# Altium footprint library Altium Example Master PCB Library.PcbLib: 219 footprints (part 13 of 14)
Each footprint in its own frame and in the unit in brackets; x right, y up, seen from the top. Pads: shape width x height; smd on the part's side, far side on the other; paste and mask are expansions set on the pad; w line width, h text height; cw(c..) or ccw(c..) is an arc to the next point about the centre after c.
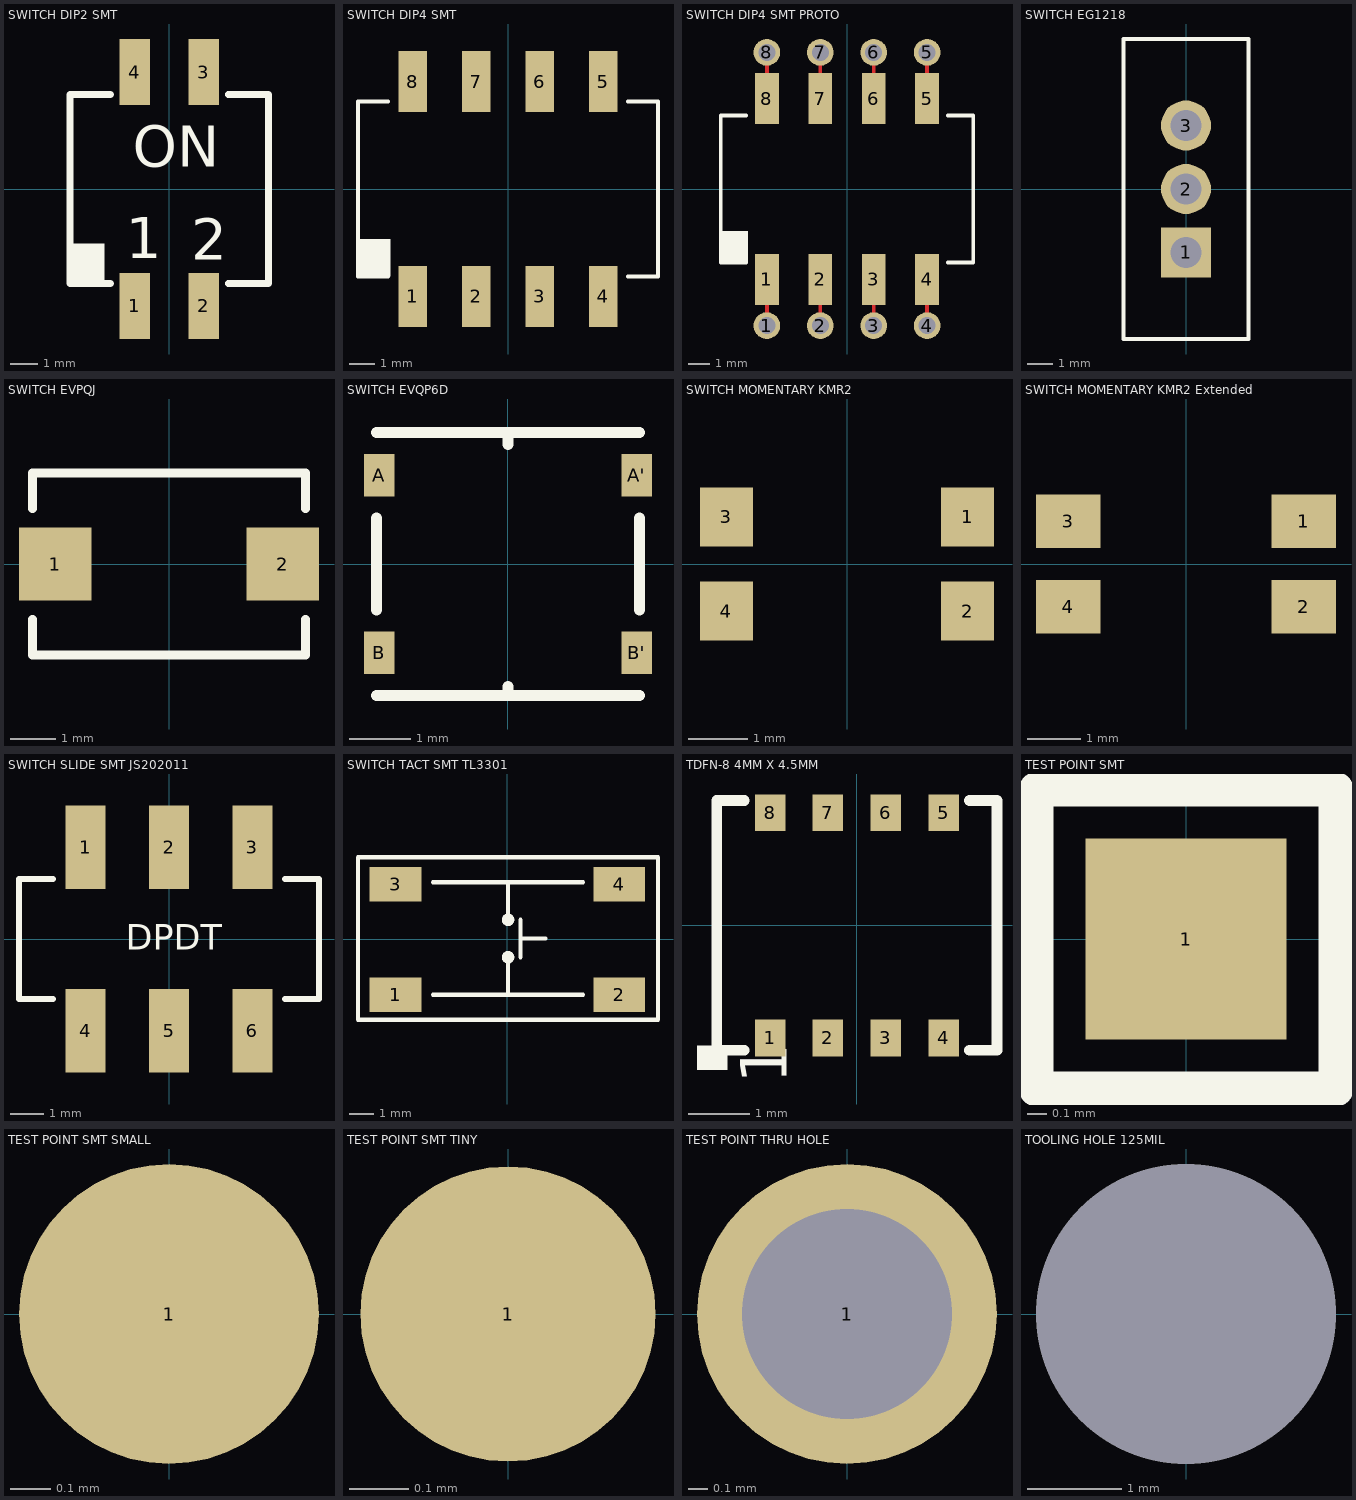
[diagram p12: the footprints below, top view; thin cyan lines are the x and y axes]

## SWITCH DIP2 SMT [mil]
pads (4):
  rect 44x96 smd: 1(-50,-169.5) 2(50,-169.5) 3(50,169.5) 4(-50,169.5)
Top Overlay:
  rectangle: -144.88,-137.8 -93.7,-78.74
  lines w10: -85.44,-137 -144,-137 -144,137 -85.44,137 ; 85.44,-137 144,-137 144,137 85.44,137
  text "ON" at -53.15,32.48 h60
  text "2" at 31.5,-102.36 h60
  text "1" at -62.99,-100.39 h60

## SWITCH DIP4 SMT [mm]
pads (8):
  rect 1.13x2.44 smd: 1(-3.81,-4.3) 2(-1.27,-4.3) 3(1.27,-4.3) 4(3.81,-4.3) 5(3.81,4.3) 6(1.27,4.3) 7(-1.27,4.3) 8(-3.81,4.3)
Top Overlay:
  rectangle: -6,-3.5 -4.7,-2
  lines w0.178: -4.8,-3.5 -6,-3.5 -6,3.5 -4.8,3.5 ; 4.8,-3.5 6,-3.5 6,3.5 4.8,3.5

## SWITCH DIP4 SMT PROTO [mm]
pads (16):
  rect 1.13x2.44 smd: 1(-3.81,-4.3) 2(-1.27,-4.3) 3(1.27,-4.3) 4(3.81,-4.3) 5(3.81,4.3) 6(1.27,4.3) 7(-1.27,4.3) 8(-3.81,4.3)
  round 1.27 hole 0.813: 1(-3.81,-6.499) 2(-1.27,-6.499) 3(1.27,-6.499) 4(3.81,-6.499) 5(3.81,6.499) 6(1.27,6.499) 7(-1.27,6.499) 8(-3.81,6.499)
Top Layer:
  lines w0.178: -3.81,-6.499 -3.81,-4.3 ; -3.81,4.3 -3.81,6.499 ; -1.27,-6.499 -1.27,-4.3 ; -1.27,4.3 -1.27,6.499 ; 1.27,-6.499 1.27,-4.3 ; 1.27,4.3 1.27,6.499 ; 3.81,-6.499 3.81,-4.3 ; 3.81,4.3 3.81,6.499
Top Overlay:
  rectangle: -6,-3.5 -4.7,-2
  lines w0.178: -4.8,-3.5 -6,-3.5 -6,3.5 -4.8,3.5 ; 4.8,-3.5 6,-3.5 6,3.5 4.8,3.5

## SWITCH EG1218 [mm]
pads (3):
  rect 2x2 hole 1.25: 1(0,-2.54)
  round 2 hole 1.25: 2(0,0) 3(0,2.54)
Top Overlay:
  lines w0.178: -2.5,-6 2.5,-6 2.5,6 -2.5,6 -2.5,-6

## SWITCH EVPQJ [mm]
pads (2):
  rect 1.6x1.6 smd: 1(-2.5,0) 2(2.5,0)
Top Overlay:
  lines w0.2: -3,-1.225 -3,-2 3,-2 3,-1.225 ; -3,1.225 -3,2 0,2 3,2 3,1.225

## SWITCH EVQP6D [mm]
pads (4):
  rect 0.5x0.7 smd: A(-2.1,1.45) A'(2.1,1.45) B(-2.1,-1.45) B'(2.1,-1.45)
Top Overlay:
  lines w0.178: -2.15,-2.15 2.15,-2.15 ; -2.15,-0.75 -2.15,0.75 ; -2.15,2.15 2.15,2.15 ; 0,-2.15 0,-2 ; 0,1.95 0,2.15 ; 2.15,-0.75 2.15,0.75

## SWITCH MOMENTARY KMR2 [mm]
pads (4):
  rect 0.9x1 smd: 1(2.05,0.8) 2(2.05,-0.8) 3(-2.05,0.8) 4(-2.05,-0.8)

## SWITCH MOMENTARY KMR2 Extended [mm]
pads (4):
  rect 1.2x1 smd: 1(2.2,0.8) 2(2.2,-0.8) 3(-2.2,0.8) 4(-2.2,-0.8)

## SWITCH SLIDE SMT JS202011 [mm]
pads (6):
  rect 1.2x2.5 smd: 1(-2.5,2.75) 2(0,2.75) 3(2.5,2.75) 4(-2.5,-2.75) 5(0,-2.75) 6(2.5,-2.75)
Top Overlay:
  lines w0.178: -3.475,-1.8 -4.5,-1.8 -4.5,1.8 -3.475,1.8 ; 3.475,-1.8 4.5,-1.8 4.5,1.8 3.475,1.8
  text "DPDT" at -1.3,-0.325 h0.76

## SWITCH TACT SMT TL3301 [mil]
pads (4):
  rect 83x55 smd: 1(-179,-88.5) 2(179,-88.5) 3(-179,88.5) 4(179,88.5)
Top Overlay:
  circle w10: c1,-28.5 r5
  circle w10: c1,31.5 r5
  lines w7: -119,-88.5 121,-88.5 ; -119,91.5 121,91.5 ; 1,-88.5 1,-28.5 ; 1,31.5 1,91.5 ; 21,-28.5 21,31.5 ; 21,1.5 61,1.5 ; -239,-128.5 241,-128.5 241,131.5 -239,131.5 -239,-128.5

## TDFN-8 4MM X 4.5MM [mm]
pads (8):
  rect 0.5x0.6 smd: 1(-1.425,-1.85) 2(-0.475,-1.85) 3(0.475,-1.85) 4(1.425,-1.85) 5(1.425,1.85) 6(0.475,1.85) 7(-0.475,1.85) 8(-1.425,1.85)
Top Overlay:
  rectangle: -2.625,-2.375 -2.125,-1.975
  lines w0.178: -1.85,-2.05 -2.3,-2.05 -2.3,2.05 -1.85,2.05 ; 1.85,-2.05 2.3,-2.05 2.3,2.05 1.85,2.05
  text "1" at -1.15,-2.6 h0.76

## TEST POINT SMT [mil]
pads (1):
  rect 40x40 smd paste-3937.01: 1(0,0)
Top Overlay:
  lines w7: -29.91,-29.91 -29.91,29.91 29.91,29.91 29.91,-29.91 -29.91,-29.91

## TEST POINT SMT SMALL [mm]
pads (1):
  round 0.75 smd paste-100: 1(0,0)

## TEST POINT SMT TINY [mm]
pads (1):
  round 0.5 smd paste-100: 1(0,0)

## TEST POINT THRU HOLE [mil]
pads (1):
  round 60 hole 42: 1(0,0)

## TOOLING HOLE 125MIL [mil]
pads (1):
  round 1 hole 125 unplated: ""(0,0)